# EAGLE library part TESTPINH-1X6 (library Traficon)
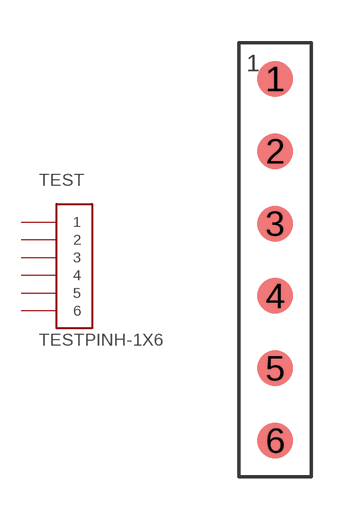
[diagram p38: symbol with the pads of 2.5MMHEAD6X1; footprint 2.5MMHEAD6X1]

Designator prefix TEST

## TESTPINH-1X6  [2.5MMHEAD6X1]
1  1  pas
2  2  pas
3  3  pas
4  4  pas
5  5  pas
6  6  pas

## Footprint 2.5MMHEAD6X1 (pad centres in mm)
smd 1.27 x 1.27: 1 0,6.35; 2 0,3.81; 3 0,1.27; 4 0,-1.27; 5 0,-3.81; 6 0,-6.35